# Altium schematic symbol library Eswitch_Sexboard.Schlib: 1 symbol
Pins are listed as number, name and electrical type; pins without a type are passive.

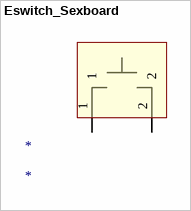
[diagram p0: symbol Eswitch_Sexboard]

## Eswitch_Sexboard
designator *
pins: 1, 2